# EAGLE library part STM32F405,7 (library stm32f40)
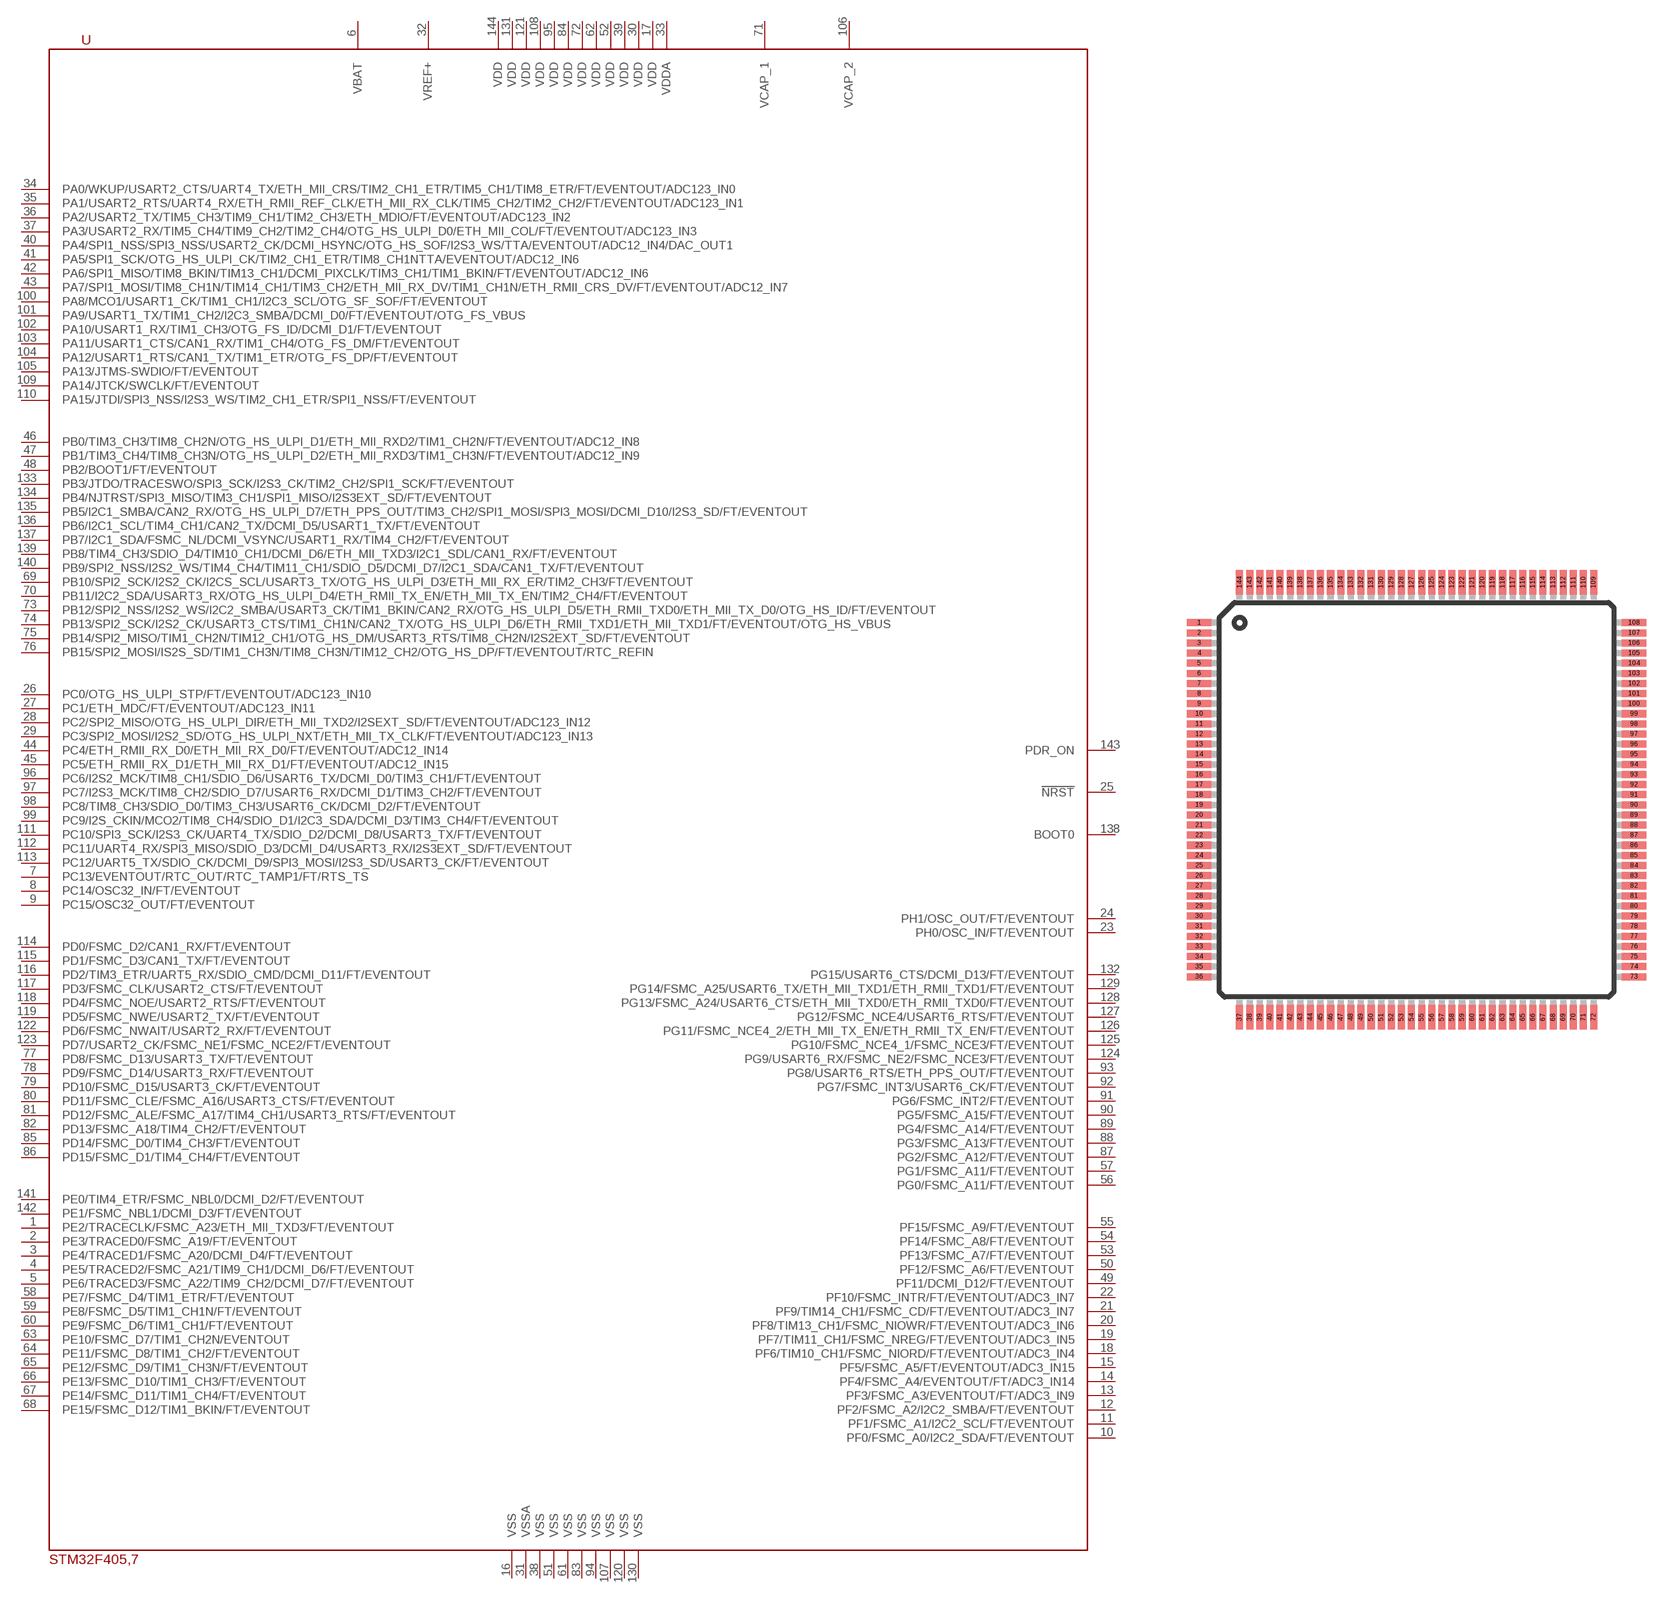
[diagram p0: symbol with the pads of PQFP144; footprint PQFP144]

Designator prefix -

## STM32F405,7  [PQFP144]
1  PE2/TRACECLK/FSMC_A23/ETH_MII_TXD3/FT/EVENTOUT
2  PE3/TRACED0/FSMC_A19/FT/EVENTOUT
3  PE4/TRACED1/FSMC_A20/DCMI_D4/FT/EVENTOUT
4  PE5/TRACED2/FSMC_A21/TIM9_CH1/DCMI_D6/FT/EVENTOUT
5  PE6/TRACED3/FSMC_A22/TIM9_CH2/DCMI_D7/FT/EVENTOUT
6  VBAT
7  PC13/EVENTOUT/RTC_OUT/RTC_TAMP1/FT/RTS_TS
8  PC14/OSC32_IN/FT/EVENTOUT
9  PC15/OSC32_OUT/FT/EVENTOUT
10  PF0/FSMC_A0/I2C2_SDA/FT/EVENTOUT
11  PF1/FSMC_A1/I2C2_SCL/FT/EVENTOUT
12  PF2/FSMC_A2/I2C2_SMBA/FT/EVENTOUT
13  PF3/FSMC_A3/EVENTOUT/FT/ADC3_IN9
14  PF4/FSMC_A4/EVENTOUT/FT/ADC3_IN14
15  PF5/FSMC_A5/FT/EVENTOUT/ADC3_IN15
16  VSS
17  VDD
18  PF6/TIM10_CH1/FSMC_NIORD/FT/EVENTOUT/ADC3_IN4
19  PF7/TIM11_CH1/FSMC_NREG/FT/EVENTOUT/ADC3_IN5
20  PF8/TIM13_CH1/FSMC_NIOWR/FT/EVENTOUT/ADC3_IN6
21  PF9/TIM14_CH1/FSMC_CD/FT/EVENTOUT/ADC3_IN7
22  PF10/FSMC_INTR/FT/EVENTOUT/ADC3_IN7
23  PH0/OSC_IN/FT/EVENTOUT
24  PH1/OSC_OUT/FT/EVENTOUT
25  !NRST!
26  PC0/OTG_HS_ULPI_STP/FT/EVENTOUT/ADC123_IN10
27  PC1/ETH_MDC/FT/EVENTOUT/ADC123_IN11
28  PC2/SPI2_MISO/OTG_HS_ULPI_DIR/ETH_MII_TXD2/I2SEXT_SD/FT/EVENTOUT/ADC123_IN12
29  PC3/SPI2_MOSI/I2S2_SD/OTG_HS_ULPI_NXT/ETH_MII_TX_CLK/FT/EVENTOUT/ADC123_IN13
30  VDD
31  VSSA
32  VREF+
33  VDDA
34  PA0/WKUP/USART2_CTS/UART4_TX/ETH_MII_CRS/TIM2_CH1_ETR/TIM5_CH1/TIM8_ETR/FT/EVENTOUT/ADC123_IN0
35  PA1/USART2_RTS/UART4_RX/ETH_RMII_REF_CLK/ETH_MII_RX_CLK/TIM5_CH2/TIM2_CH2/FT/EVENTOUT/ADC123_IN1
36  PA2/USART2_TX/TIM5_CH3/TIM9_CH1/TIM2_CH3/ETH_MDIO/FT/EVENTOUT/ADC123_IN2
37  PA3/USART2_RX/TIM5_CH4/TIM9_CH2/TIM2_CH4/OTG_HS_ULPI_D0/ETH_MII_COL/FT/EVENTOUT/ADC123_IN3
38  VSS
39  VDD
40  PA4/SPI1_NSS/SPI3_NSS/USART2_CK/DCMI_HSYNC/OTG_HS_SOF/I2S3_WS/TTA/EVENTOUT/ADC12_IN4/DAC_OUT1
41  PA5/SPI1_SCK/OTG_HS_ULPI_CK/TIM2_CH1_ETR/TIM8_CH1NTTA/EVENTOUT/ADC12_IN6
42  PA6/SPI1_MISO/TIM8_BKIN/TIM13_CH1/DCMI_PIXCLK/TIM3_CH1/TIM1_BKIN/FT/EVENTOUT/ADC12_IN6
43  PA7/SPI1_MOSI/TIM8_CH1N/TIM14_CH1/TIM3_CH2/ETH_MII_RX_DV/TIM1_CH1N/ETH_RMII_CRS_DV/FT/EVENTOUT/ADC12_IN7
44  PC4/ETH_RMII_RX_D0/ETH_MII_RX_D0/FT/EVENTOUT/ADC12_IN14
45  PC5/ETH_RMII_RX_D1/ETH_MII_RX_D1/FT/EVENTOUT/ADC12_IN15
46  PB0/TIM3_CH3/TIM8_CH2N/OTG_HS_ULPI_D1/ETH_MII_RXD2/TIM1_CH2N/FT/EVENTOUT/ADC12_IN8
47  PB1/TIM3_CH4/TIM8_CH3N/OTG_HS_ULPI_D2/ETH_MII_RXD3/TIM1_CH3N/FT/EVENTOUT/ADC12_IN9
48  PB2/BOOT1/FT/EVENTOUT
49  PF11/DCMI_D12/FT/EVENTOUT
50  PF12/FSMC_A6/FT/EVENTOUT
51  VSS
52  VDD
53  PF13/FSMC_A7/FT/EVENTOUT
54  PF14/FSMC_A8/FT/EVENTOUT
55  PF15/FSMC_A9/FT/EVENTOUT
56  PG0/FSMC_A11/FT/EVENTOUT
57  PG1/FSMC_A11/FT/EVENTOUT
58  PE7/FSMC_D4/TIM1_ETR/FT/EVENTOUT
59  PE8/FSMC_D5/TIM1_CH1N/FT/EVENTOUT
60  PE9/FSMC_D6/TIM1_CH1/FT/EVENTOUT
61  VSS
62  VDD
63  PE10/FSMC_D7/TIM1_CH2N/EVENTOUT
64  PE11/FSMC_D8/TIM1_CH2/FT/EVENTOUT
65  PE12/FSMC_D9/TIM1_CH3N/FT/EVENTOUT
66  PE13/FSMC_D10/TIM1_CH3/FT/EVENTOUT
67  PE14/FSMC_D11/TIM1_CH4/FT/EVENTOUT
68  PE15/FSMC_D12/TIM1_BKIN/FT/EVENTOUT
69  PB10/SPI2_SCK/I2S2_CK/I2CS_SCL/USART3_TX/OTG_HS_ULPI_D3/ETH_MII_RX_ER/TIM2_CH3/FT/EVENTOUT
70  PB11/I2C2_SDA/USART3_RX/OTG_HS_ULPI_D4/ETH_RMII_TX_EN/ETH_MII_TX_EN/TIM2_CH4/FT/EVENTOUT
71  VCAP_1
72  VDD
73  PB12/SPI2_NSS/I2S2_WS/I2C2_SMBA/USART3_CK/TIM1_BKIN/CAN2_RX/OTG_HS_ULPI_D5/ETH_RMII_TXD0/ETH_MII_TX_D0/OTG_HS_ID/FT/EVENTOUT
74  PB13/SPI2_SCK/I2S2_CK/USART3_CTS/TIM1_CH1N/CAN2_TX/OTG_HS_ULPI_D6/ETH_RMII_TXD1/ETH_MII_TXD1/FT/EVENTOUT/OTG_HS_VBUS
75  PB14/SPI2_MISO/TIM1_CH2N/TIM12_CH1/OTG_HS_DM/USART3_RTS/TIM8_CH2N/I2S2EXT_SD/FT/EVENTOUT
76  PB15/SPI2_MOSI/IS2S_SD/TIM1_CH3N/TIM8_CH3N/TIM12_CH2/OTG_HS_DP/FT/EVENTOUT/RTC_REFIN
77  PD8/FSMC_D13/USART3_TX/FT/EVENTOUT
78  PD9/FSMC_D14/USART3_RX/FT/EVENTOUT
79  PD10/FSMC_D15/USART3_CK/FT/EVENTOUT
80  PD11/FSMC_CLE/FSMC_A16/USART3_CTS/FT/EVENTOUT
81  PD12/FSMC_ALE/FSMC_A17/TIM4_CH1/USART3_RTS/FT/EVENTOUT
82  PD13/FSMC_A18/TIM4_CH2/FT/EVENTOUT
83  VSS
84  VDD
85  PD14/FSMC_D0/TIM4_CH3/FT/EVENTOUT
86  PD15/FSMC_D1/TIM4_CH4/FT/EVENTOUT
87  PG2/FSMC_A12/FT/EVENTOUT
88  PG3/FSMC_A13/FT/EVENTOUT
89  PG4/FSMC_A14/FT/EVENTOUT
90  PG5/FSMC_A15/FT/EVENTOUT
91  PG6/FSMC_INT2/FT/EVENTOUT
92  PG7/FSMC_INT3/USART6_CK/FT/EVENTOUT
93  PG8/USART6_RTS/ETH_PPS_OUT/FT/EVENTOUT
94  VSS
95  VDD
96  PC6/I2S2_MCK/TIM8_CH1/SDIO_D6/USART6_TX/DCMI_D0/TIM3_CH1/FT/EVENTOUT
97  PC7/I2S3_MCK/TIM8_CH2/SDIO_D7/USART6_RX/DCMI_D1/TIM3_CH2/FT/EVENTOUT
98  PC8/TIM8_CH3/SDIO_D0/TIM3_CH3/USART6_CK/DCMI_D2/FT/EVENTOUT
99  PC9/I2S_CKIN/MCO2/TIM8_CH4/SDIO_D1/I2C3_SDA/DCMI_D3/TIM3_CH4/FT/EVENTOUT
100  PA8/MCO1/USART1_CK/TIM1_CH1/I2C3_SCL/OTG_SF_SOF/FT/EVENTOUT
101  PA9/USART1_TX/TIM1_CH2/I2C3_SMBA/DCMI_D0/FT/EVENTOUT/OTG_FS_VBUS
102  PA10/USART1_RX/TIM1_CH3/OTG_FS_ID/DCMI_D1/FT/EVENTOUT
103  PA11/USART1_CTS/CAN1_RX/TIM1_CH4/OTG_FS_DM/FT/EVENTOUT
104  PA12/USART1_RTS/CAN1_TX/TIM1_ETR/OTG_FS_DP/FT/EVENTOUT
105  PA13/JTMS-SWDIO/FT/EVENTOUT
106  VCAP_2
107  VSS
108  VDD
109  PA14/JTCK/SWCLK/FT/EVENTOUT
110  PA15/JTDI/SPI3_NSS/I2S3_WS/TIM2_CH1_ETR/SPI1_NSS/FT/EVENTOUT
111  PC10/SPI3_SCK/I2S3_CK/UART4_TX/SDIO_D2/DCMI_D8/USART3_TX/FT/EVENTOUT
112  PC11/UART4_RX/SPI3_MISO/SDIO_D3/DCMI_D4/USART3_RX/I2S3EXT_SD/FT/EVENTOUT
113  PC12/UART5_TX/SDIO_CK/DCMI_D9/SPI3_MOSI/I2S3_SD/USART3_CK/FT/EVENTOUT
114  PD0/FSMC_D2/CAN1_RX/FT/EVENTOUT
115  PD1/FSMC_D3/CAN1_TX/FT/EVENTOUT
116  PD2/TIM3_ETR/UART5_RX/SDIO_CMD/DCMI_D11/FT/EVENTOUT
117  PD3/FSMC_CLK/USART2_CTS/FT/EVENTOUT
118  PD4/FSMC_NOE/USART2_RTS/FT/EVENTOUT
119  PD5/FSMC_NWE/USART2_TX/FT/EVENTOUT
120  VSS
121  VDD
122  PD6/FSMC_NWAIT/USART2_RX/FT/EVENTOUT
123  PD7/USART2_CK/FSMC_NE1/FSMC_NCE2/FT/EVENTOUT
124  PG9/USART6_RX/FSMC_NE2/FSMC_NCE3/FT/EVENTOUT
125  PG10/FSMC_NCE4_1/FSMC_NCE3/FT/EVENTOUT
126  PG11/FSMC_NCE4_2/ETH_MII_TX_EN/ETH_RMII_TX_EN/FT/EVENTOUT
127  PG12/FSMC_NCE4/USART6_RTS/FT/EVENTOUT
128  PG13/FSMC_A24/USART6_CTS/ETH_MII_TXD0/ETH_RMII_TXD0/FT/EVENTOUT
129  PG14/FSMC_A25/USART6_TX/ETH_MII_TXD1/ETH_RMII_TXD1/FT/EVENTOUT
130  VSS
131  VDD
132  PG15/USART6_CTS/DCMI_D13/FT/EVENTOUT
133  PB3/JTDO/TRACESWO/SPI3_SCK/I2S3_CK/TIM2_CH2/SPI1_SCK/FT/EVENTOUT
134  PB4/NJTRST/SPI3_MISO/TIM3_CH1/SPI1_MISO/I2S3EXT_SD/FT/EVENTOUT
135  PB5/I2C1_SMBA/CAN2_RX/OTG_HS_ULPI_D7/ETH_PPS_OUT/TIM3_CH2/SPI1_MOSI/SPI3_MOSI/DCMI_D10/I2S3_SD/FT/EVENTOUT
136  PB6/I2C1_SCL/TIM4_CH1/CAN2_TX/DCMI_D5/USART1_TX/FT/EVENTOUT
137  PB7/I2C1_SDA/FSMC_NL/DCMI_VSYNC/USART1_RX/TIM4_CH2/FT/EVENTOUT
138  BOOT0
139  PB8/TIM4_CH3/SDIO_D4/TIM10_CH1/DCMI_D6/ETH_MII_TXD3/I2C1_SDL/CAN1_RX/FT/EVENTOUT
140  PB9/SPI2_NSS/I2S2_WS/TIM4_CH4/TIM11_CH1/SDIO_D5/DCMI_D7/I2C1_SDA/CAN1_TX/FT/EVENTOUT
141  PE0/TIM4_ETR/FSMC_NBL0/DCMI_D2/FT/EVENTOUT
142  PE1/FSMC_NBL1/DCMI_D3/FT/EVENTOUT
143  PDR_ON
144  VDD

## Footprint PQFP144 (pad centres in mm)
Plastic Quad Flat Pack
smd 1.2 x 0.35: 1 -10.75,8.75; 2 -10.75,8.25; 3 -10.75,7.75; 4 -10.75,7.25; 5 -10.75,6.75; 6 -10.75,6.25; 7 -10.75,5.75; 8 -10.75,5.25; 9 -10.75,4.75; 10 -10.75,4.25; 11 -10.75,3.75; 12 -10.75,3.25; 13 -10.75,2.75; 14 -10.75,2.25; 15 -10.75,1.75; 16 -10.75,1.25; 17 -10.75,0.75; 18 -10.75,0.25; 19 -10.75,-0.25; 20 -10.75,-0.75; 21 -10.75,-1.25; 22 -10.75,-1.75; 23 -10.75,-2.25; 24 -10.75,-2.75; 25 -10.75,-3.25; 26 -10.75,-3.75; 27 -10.75,-4.25; 28 -10.75,-4.75; 29 -10.75,-5.25; 30 -10.75,-5.75; 31 -10.75,-6.25; 32 -10.75,-6.75; 33 -10.75,-7.25; 34 -10.75,-7.75; 35 -10.75,-8.25; 36 -10.75,-8.75; 73 10.75,-8.75; 74 10.75,-8.25; 75 10.75,-7.75; 76 10.75,-7.25; 77 10.75,-6.75; 78 10.75,-6.25; 79 10.75,-5.75; 80 10.75,-5.25; 81 10.75,-4.75; 82 10.75,-4.25; 83 10.75,-3.75; 84 10.75,-3.25; 85 10.75,-2.75; 86 10.75,-2.25; 87 10.75,-1.75; 88 10.75,-1.25; 89 10.75,-0.75; 90 10.75,-0.25; 91 10.75,0.25; 92 10.75,0.75; 93 10.75,1.25; 94 10.75,1.75; 95 10.75,2.25; 96 10.75,2.75; 97 10.75,3.25; 98 10.75,3.75; 99 10.75,4.25; 100 10.75,4.75; 101 10.75,5.25; 102 10.75,5.75; 103 10.75,6.25; 104 10.75,6.75; 105 10.75,7.25; 106 10.75,7.75; 107 10.75,8.25; 108 10.75,8.75
smd 0.35 x 1.2: 37 -8.75,-10.75; 38 -8.25,-10.75; 39 -7.75,-10.75; 40 -7.25,-10.75; 41 -6.75,-10.75; 42 -6.25,-10.75; 43 -5.75,-10.75; 44 -5.25,-10.75; 45 -4.75,-10.75; 46 -4.25,-10.75; 47 -3.75,-10.75; 48 -3.25,-10.75; 49 -2.75,-10.75; 50 -2.25,-10.75; 51 -1.75,-10.75; 52 -1.25,-10.75; 53 -0.75,-10.75; 54 -0.25,-10.75; 55 0.25,-10.75; 56 0.75,-10.75; 57 1.25,-10.75; 58 1.75,-10.75; 59 2.25,-10.75; 60 2.75,-10.75; 61 3.25,-10.75; 62 3.75,-10.75; 63 4.25,-10.75; 64 4.75,-10.75; 65 5.25,-10.75; 66 5.75,-10.75; 67 6.25,-10.75; 68 6.75,-10.75; 69 7.25,-10.75; 70 7.75,-10.75; 71 8.25,-10.75; 72 8.75,-10.75; 109 8.75,10.75; 110 8.25,10.75; 111 7.75,10.75; 112 7.25,10.75; 113 6.75,10.75; 114 6.25,10.75; 115 5.75,10.75; 116 5.25,10.75; 117 4.75,10.75; 118 4.25,10.75; 119 3.75,10.75; 120 3.25,10.75; 121 2.75,10.75; 122 2.25,10.75; 123 1.75,10.75; 124 1.25,10.75; 125 0.75,10.75; 126 0.25,10.75; 127 -0.25,10.75; 128 -0.75,10.75; 129 -1.25,10.75; 130 -1.75,10.75; 131 -2.25,10.75; 132 -2.75,10.75; 133 -3.25,10.75; 134 -3.75,10.75; 135 -4.25,10.75; 136 -4.75,10.75; 137 -5.25,10.75; 138 -5.75,10.75; 139 -6.25,10.75; 140 -6.75,10.75; 141 -7.25,10.75; 142 -7.75,10.75; 143 -8.25,10.75; 144 -8.75,10.75